# Altium schematic symbol library con-cpci.SCHLIB: 19 symbols (part 2 of 2)
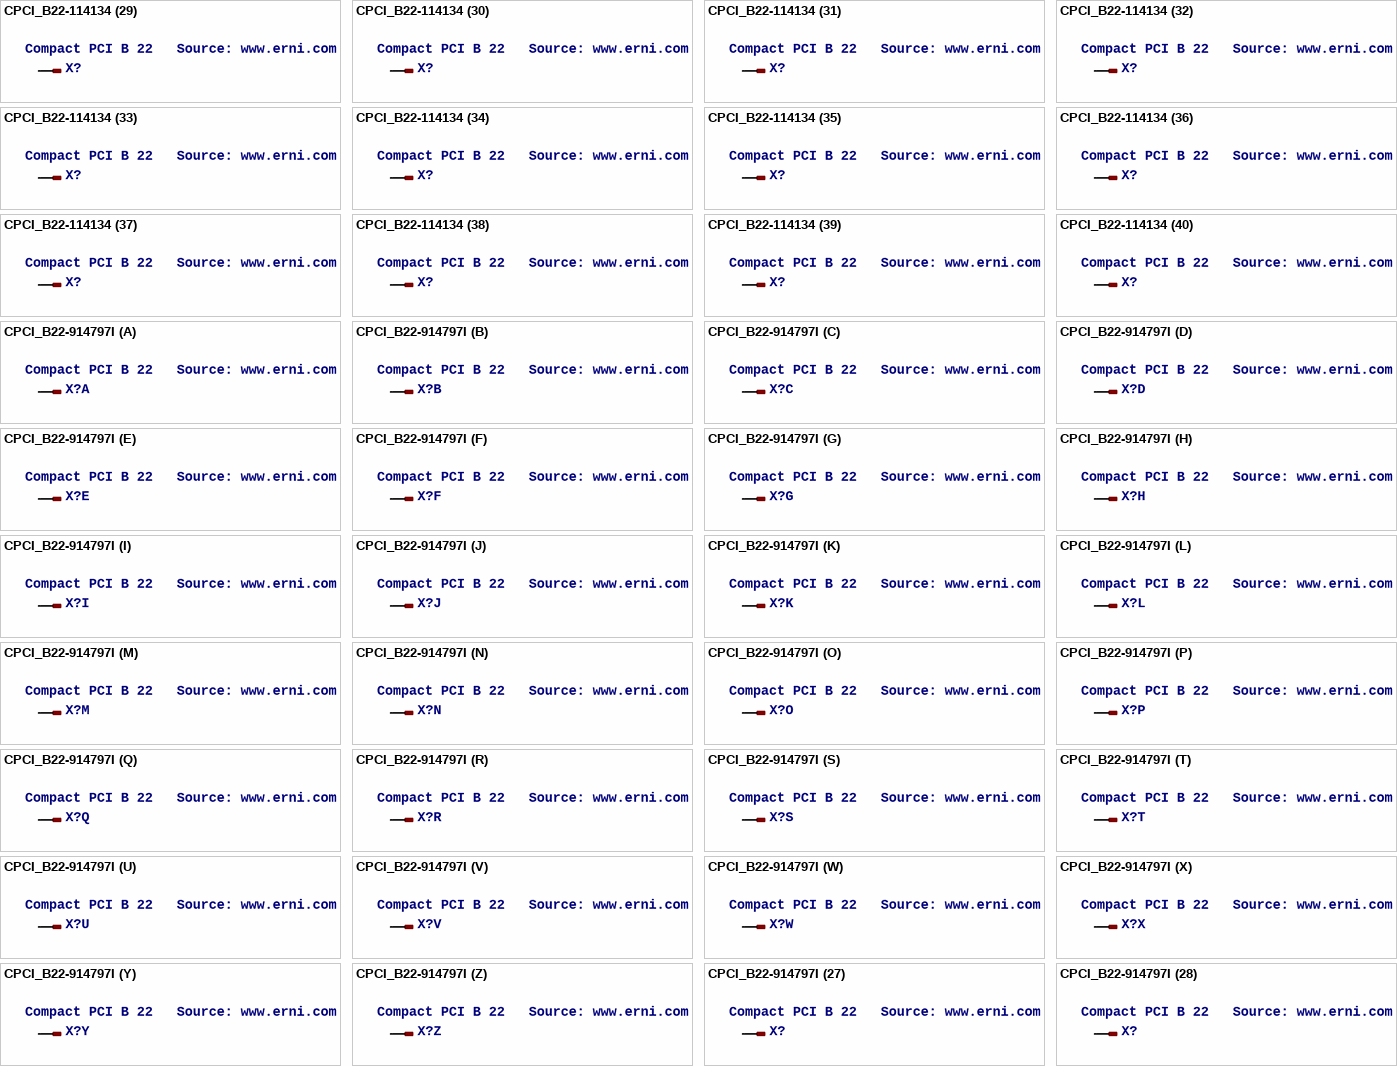
[diagram p19: symbols CPCI_B22-114134 to CPCI_B22-914797I]

## CPCI_B22-114134
designator X?, comment Compact PCI B 22   Source: www.erni.com
OC_FARNELL: unknown; OC_NEWARK: unknown
footprint 114134
part A pins: A1 1
part B pins: B1 1
part C pins: C1 1
part D pins: D1 1
part E pins: E1 1
part F pins: A2 1
part G pins: A3 1
part H pins: A4 1
part I pins: A5 1
part J pins: A6 1
part K pins: A7 1
part L pins: A8 1
part M pins: A9 1
part N pins: A10 1
part O pins: A11 1
part P pins: A12 1
part Q pins: A13 1
part R pins: A14 1
part S pins: A15 1
part T pins: A16 1
part U pins: A17 1
part V pins: A18 1
part W pins: A19 1
part X pins: A20 1
part Y pins: A21 1
part Z pins: A22 1
part 27 pins: B2 1
part 28 pins: B3 1
part 29 pins: B4 1
part 30 pins: B5 1
part 31 pins: B6 1
part 32 pins: B7 1
part 33 pins: B8 1
part 34 pins: B9 1
part 35 pins: B10 1
part 36 pins: B11 1
part 37 pins: B12 1
part 38 pins: B13 1
part 39 pins: B14 1
part 40 pins: B15 1
part 41 pins: B16 1
part 42 pins: B17 1
part 43 pins: B18 1
part 44 pins: B19 1
part 45 pins: B20 1
part 46 pins: B21 1
part 47 pins: B22 1
part 48 pins: C2 1
part 49 pins: C3 1
part 50 pins: C4 1
part 51 pins: C5 1
part 52 pins: C6 1
part 53 pins: C7 1
part 54 pins: C8 1
part 55 pins: C9 1
part 56 pins: C10 1
part 57 pins: C11 1
part 58 pins: C12 1
part 59 pins: C13 1
part 60 pins: C14 1
part 61 pins: C15 1
part 62 pins: C16 1
part 63 pins: C17 1
part 64 pins: C18 1
part 65 pins: C19 1
part 66 pins: C20 1
part 67 pins: C21 1
part 68 pins: C22 1
part 69 pins: D2 1
part 70 pins: D3 1
part 71 pins: D4 1
part 72 pins: D5 1
part 73 pins: D6 1
part 74 pins: D7 1
part 75 pins: D8 1
part 76 pins: D9 1
part 77 pins: D10 1
part 78 pins: D11 1
part 79 pins: D12 1
part 80 pins: D13 1
part 81 pins: D14 1
part 82 pins: D15 1
part 83 pins: D16 1
part 84 pins: D17 1
part 85 pins: D18 1
part 86 pins: D19 1
part 87 pins: D20 1
part 88 pins: D21 1
part 89 pins: D22 1
part 90 pins: E2 1
part 91 pins: E3 1
part 92 pins: E4 1
part 93 pins: E5 1
part 94 pins: E6 1
part 95 pins: E7 1
part 96 pins: E8 1
part 97 pins: E9 1
part 98 pins: E10 1
part 99 pins: E11 1
part 100 pins: E12 1
part 101 pins: E13 1
part 102 pins: E14 1
part 103 pins: E15 1
part 104 pins: E16 1
part 105 pins: E17 1
part 106 pins: E18 1
part 107 pins: E19 1
part 108 pins: E20 1
part 109 pins: E21 1
part 110 pins: E22 1

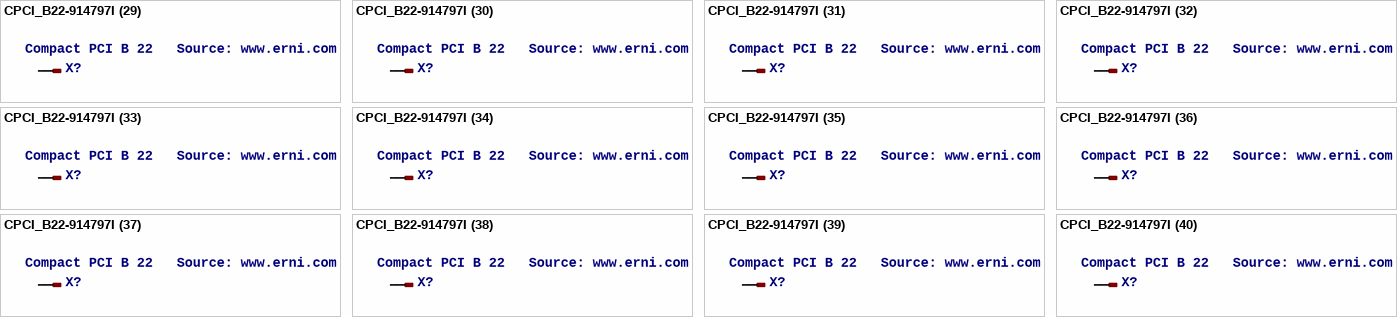
[diagram p18: symbol CPCI_B22-914797I]

## CPCI_B22-914797I
designator X?, comment Compact PCI B 22   Source: www.erni.com
OC_FARNELL: unknown; OC_NEWARK: unknown
footprint 914797I
part A pins: A1 1
part B pins: B1 1
part C pins: C1 1
part D pins: D1 1
part E pins: E1 1
part F pins: A2 1
part G pins: A3 1
part H pins: A4 1
part I pins: A5 1
part J pins: A6 1
part K pins: A7 1
part L pins: A8 1
part M pins: A9 1
part N pins: A10 1
part O pins: A11 1
part P pins: A12 1
part Q pins: A13 1
part R pins: A14 1
part S pins: A15 1
part T pins: A16 1
part U pins: A17 1
part V pins: A18 1
part W pins: A19 1
part X pins: A20 1
part Y pins: A21 1
part Z pins: A22 1
part 27 pins: B2 1
part 28 pins: B3 1
part 29 pins: B4 1
part 30 pins: B5 1
part 31 pins: B6 1
part 32 pins: B7 1
part 33 pins: B8 1
part 34 pins: B9 1
part 35 pins: B10 1
part 36 pins: B11 1
part 37 pins: B12 1
part 38 pins: B13 1
part 39 pins: B14 1
part 40 pins: B15 1
part 41 pins: B16 1
part 42 pins: B17 1
part 43 pins: B18 1
part 44 pins: B19 1
part 45 pins: B20 1
part 46 pins: B21 1
part 47 pins: B22 1
part 48 pins: C2 1
part 49 pins: C3 1
part 50 pins: C4 1
part 51 pins: C5 1
part 52 pins: C6 1
part 53 pins: C7 1
part 54 pins: C8 1
part 55 pins: C9 1
part 56 pins: C10 1
part 57 pins: C11 1
part 58 pins: C12 1
part 59 pins: C13 1
part 60 pins: C14 1
part 61 pins: C15 1
part 62 pins: C16 1
part 63 pins: C17 1
part 64 pins: C18 1
part 65 pins: C19 1
part 66 pins: C20 1
part 67 pins: C21 1
part 68 pins: C22 1
part 69 pins: D2 1
part 70 pins: D3 1
part 71 pins: D4 1
part 72 pins: D5 1
part 73 pins: D6 1
part 74 pins: D7 1
part 75 pins: D8 1
part 76 pins: D9 1
part 77 pins: D10 1
part 78 pins: D11 1
part 79 pins: D12 1
part 80 pins: D13 1
part 81 pins: D14 1
part 82 pins: D15 1
part 83 pins: D16 1
part 84 pins: D17 1
part 85 pins: D18 1
part 86 pins: D19 1
part 87 pins: D20 1
part 88 pins: D21 1
part 89 pins: D22 1
part 90 pins: E2 1
part 91 pins: E3 1
part 92 pins: E4 1
part 93 pins: E5 1
part 94 pins: E6 1
part 95 pins: E7 1
part 96 pins: E8 1
part 97 pins: E9 1
part 98 pins: E10 1
part 99 pins: E11 1
part 100 pins: E12 1
part 101 pins: E13 1
part 102 pins: E14 1
part 103 pins: E15 1
part 104 pins: E16 1
part 105 pins: E17 1
part 106 pins: E18 1
part 107 pins: E19 1
part 108 pins: E20 1
part 109 pins: E21 1
part 110 pins: E22 1